# Altium footprint library DCpower005.PcbLib: 1 footprints
Each footprint in its own frame and in the unit in brackets; x right, y up, seen from the top. Pads: shape width x height; smd on the part's side, far side on the other; paste and mask are expansions set on the pad; w line width, h text height; cw(c..) or ccw(c..) is an arc to the next point about the centre after c.
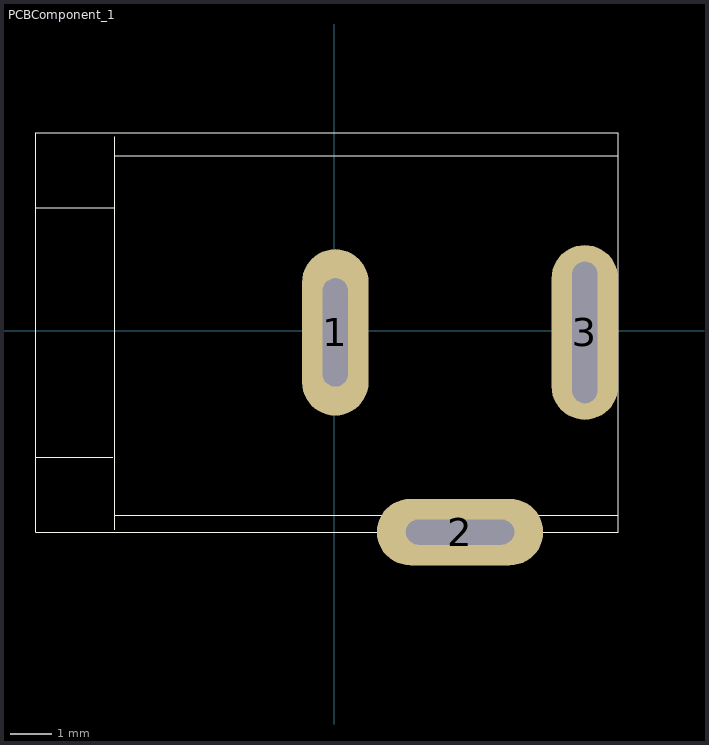
[diagram p0: the footprint, top view; thin cyan lines are the x and y axes]

## PCBComponent_1 [mm]
pads (3):
  oval 1.6x4 hole 0.6 slot 2.6 at 90 deg: 1(0.022,-0.038)
  oval 4x1.6 hole 0.6 slot 2.6 at 0 deg: 2(3.022,-4.838)
  oval 1.6x4.2 hole 0.6 slot 3.4 at 90 deg: 3(6.022,-0.038)
Top Overlay:
  lines w0.025: -7.178,-3.038 -5.328,-3.038 ; -7.178,2.962 -5.278,2.962 ; -5.278,-4.788 -5.278,4.662 ; -5.278,-4.438 6.822,-4.438 ; -5.278,4.212 6.822,4.212 ; -7.178,-4.838 6.822,-4.838 6.822,4.762 -7.178,4.762 -7.178,-4.838